# Altium footprint library TO252-4L.PcbLib: 1 footprints
Each footprint in its own frame and in the unit in brackets; x right, y up, seen from the top. Pads: shape width x height; smd on the part's side, far side on the other; paste and mask are expansions set on the pad; w line width, h text height; cw(c..) or ccw(c..) is an arc to the next point about the centre after c.
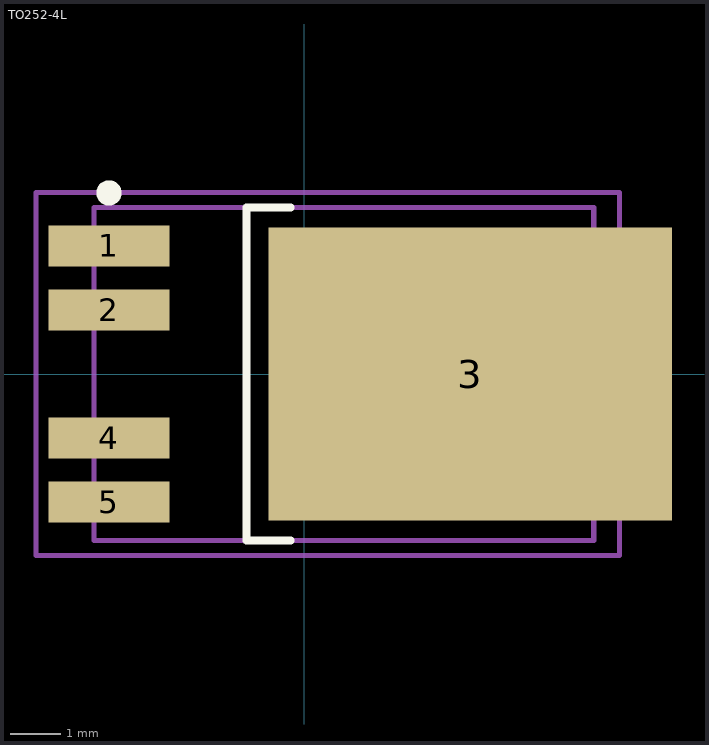
[diagram p0: the footprint, top view; thin cyan lines are the x and y axes]

## TO252-4L [mm] "D-PAK, 5-Pads, Body 6.15x6.66mm (max), IPC High Density"
height 2.29
pads (5):
  rect 2.4x0.81 smd: 1(-3.873,2.54) 2(-3.873,1.27) 4(-3.873,-1.27) 5(-3.873,-2.54)
  rect 8x5.8 smd: 3(3.293,0)
Top Overlay:
  circle w0.25: c-3.873,3.59 r0.125
  lines w0.152: -0.272,-3.3 -1.148,-3.3 -1.148,3.3 -0.272,3.3
Mechanical 13:
  lines w0.1: -4.169,-3.3 -4.169,3.3 5.737,3.3 5.737,-3.3 -4.169,-3.3
Mechanical 15:
  lines w0.1: -0.223,0 0.777,0 ; 0.276,-0.5 0.276,0.5 ; -5.323,-3.6 -5.323,3.6 6.245,3.6 6.245,-3.6 -5.323,-3.6
3D body: height 2.34, standoff 0, extent -4.19,-3.3 5.716,3.3